# Altium schematic symbol library bmp280_i2c.SchLib: 1 symbol
Pins are listed as number, name and electrical type; pins without a type are passive.

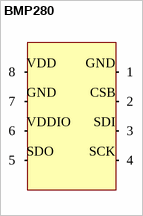
[diagram p0: symbol BMP280]

## BMP280
designator *  (value not drawn)
footprint bmp280_i2c (pressure sensor)
pins: CSB 2, GND 7, GND 1, SCK 4, SDI 3, SDO 5, VDD 8, VDDIO 6